# Altium footprint library PCB - RELAY - LTV-356T.PCBLIB: 1 footprints
Each footprint in its own frame and in the unit in brackets; x right, y up, seen from the top. Pads: shape width x height; smd on the part's side, far side on the other; paste and mask are expansions set on the pad; w line width, h text height; cw(c..) or ccw(c..) is an arc to the next point about the centre after c.
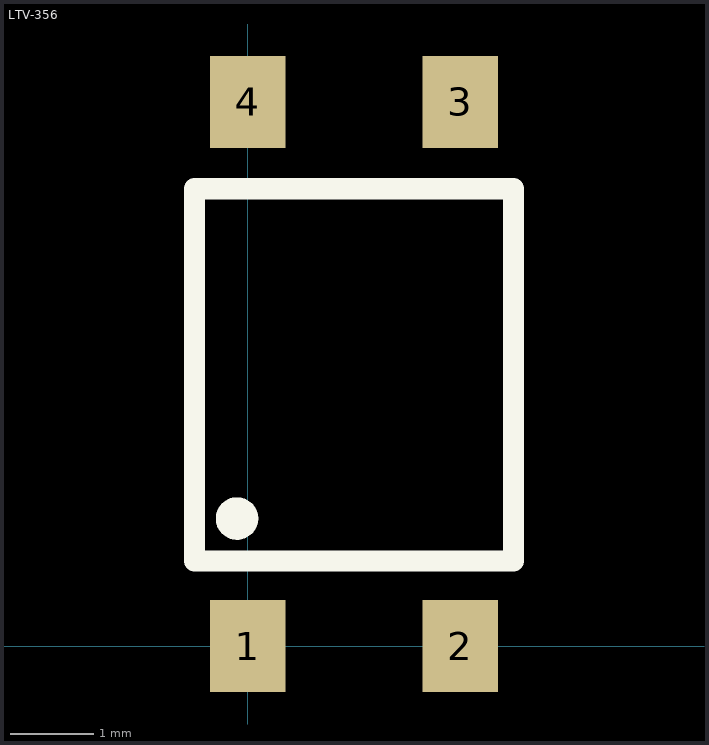
[diagram p0: the footprint, top view; thin cyan lines are the x and y axes]

## LTV-356 [mm]
pads (4):
  rect 0.9x1.1 smd: 1(0,0) 2(2.54,0) 3(2.54,6.5) 4(0,6.5)
Top Overlay:
  circle w0.254: c-0.127,1.524 r0.127
  lines w0.254: -0.635,1.016 -0.635,5.461 3.175,5.461 3.175,1.016 -0.635,1.016
  text ".Designator" at 5.207,-1.016 h1.52
3D body "LTV-356T.step": height 2.2, standoff 0.01, extent -0.655,-0.328 3.195,6.678